# EAGLE library part PIXART_IR_CAMERA (library Arsenio_Dev)
PixArt MOT from Genuine RVL-003 Wiimote. I2C interface @ 3.3v logic
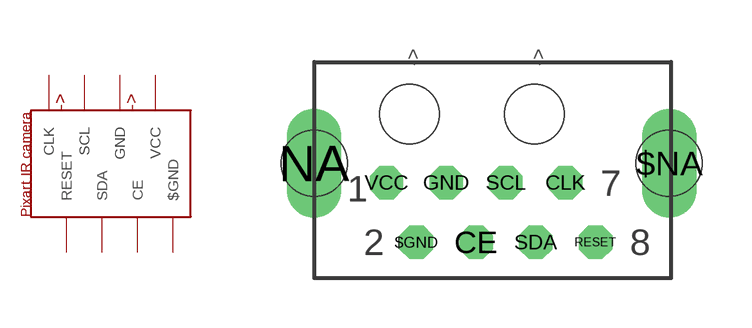
[diagram p13: symbol with the pads of WII_IR_SENSOR; footprint WII_IR_SENSOR]

Designator prefix -

## PIXART_IR_CAMERAWII_IR_CAM  [WII_IR_SENSOR]
$GND  $GND
CE  CE
CLK  CLK
GND  GND
RESET  RESET
SCL  SCL
SDA  SDA
VCC  VCC

## Footprint WII_IR_SENSOR (pad centres in mm)
drill 0.508 pad 1.016 octagon: $GND -1.887,-1.8; CE -0.073,-1.8; CLK 2.649,0.014; GND -0.98,0.014; RESET 3.556,-1.8; SCL 0.835,0.014; SDA 1.742,-1.8; VCC -2.794,0.014
drill 0.5 pad 1.651 long: $NA 5.806,0.6; NA -4.994,0.6
hole 1.8 at 1.706,2.1
hole 1.8 at -2.094,2.1
hole 2 at -4.994,0.6
hole 2 at 5.801,0.6